# EAGLE library part LT3473A (library PowerProducts)
LT-Spice library generated with : ltspice.ulp from: D:/Program Files (x86)/LTC/LTspiceIV/lib/sym/PowerProducts/LT3474*.asy at 04.10.2012 21:49:13
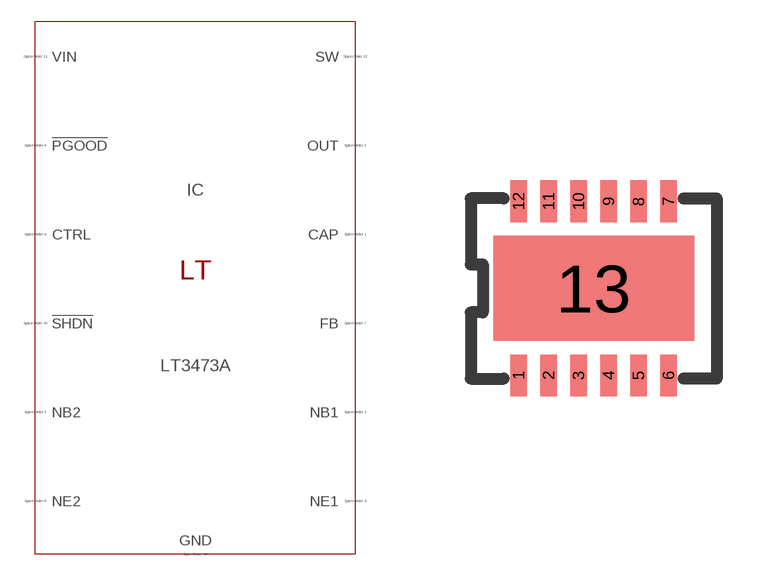
[diagram p20: symbol with the pads of DFN12(DE); footprint DFN12(DE)]

Designator prefix IC

## LT3473A (SPICEMODEL: LT1762.lib; SPICEPREFIX: X; VALUE2: LT1762)  [DFN12(DE)]
1  CAP  pas
2  OUT  pas
3  NB1  pas
4  NE1  pas
5  NB2  pas
6  NE2  pas
7  FB  pas
8  CTRL  pas
9  !PGOOD  pas
10  !SHDN  pas
11  VIN  pas
12  SW  pas
13  GND  pas

## Footprint DFN12(DE) (pad centres in mm)
Package generated from: DFN12(DE).asc (!PADS-POWERPCB-V5.0-BASIC! DESIGN DATABASE ASCII FILE 1.0) with :import-pads-powerpcb-v5.ulp Version 1.0.1 at 04.10.2012 14:11:16
smd 0.42 x 1.05: 1 -1.875,-2.175; 2 -1.125,-2.175; 3 -0.375,-2.175; 4 0.375,-2.175; 5 1.125,-2.175; 6 1.875,-2.175; 7 1.875,2.175; 8 1.125,2.175; 9 0.375,2.175; 10 -0.375,2.175; 11 -1.125,2.175; 12 -1.875,2.175
smd 5.025 x 2.625: 13 0,0